# Altium footprint library SRU8043-330Y-Footprint-1.PcbLib: 1 footprints
Each footprint in its own frame and in the unit in brackets; x right, y up, seen from the top. Pads: shape width x height; smd on the part's side, far side on the other; paste and mask are expansions set on the pad; w line width, h text height; cw(c..) or ccw(c..) is an arc to the next point about the centre after c.
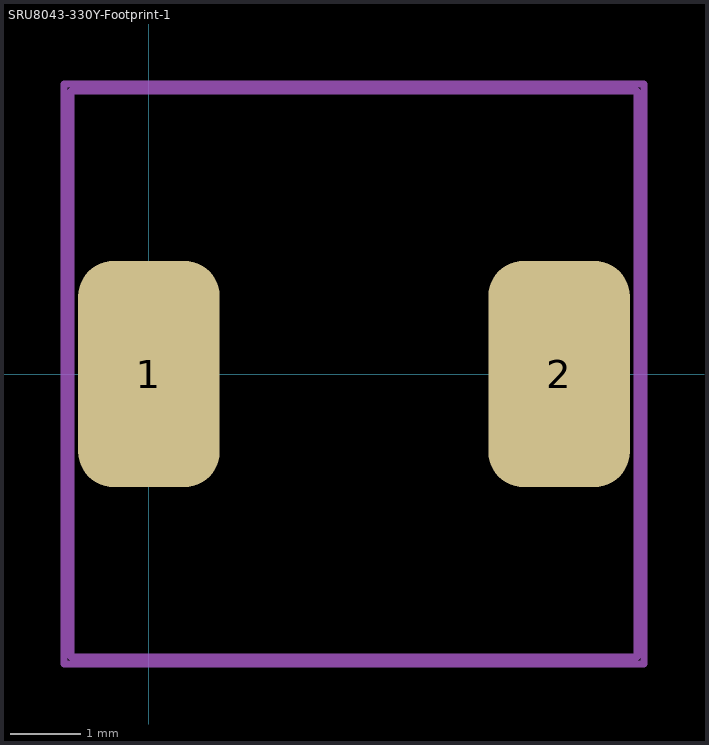
[diagram p0: the footprint, top view; thin cyan lines are the x and y axes]

## SRU8043-330Y-Footprint-1 [mm]
pads (2):
  rrect50% 2x3.2 smd: 1(0,0) 2(5.8,0)
Mechanical 2:
  lines w0.1: -1.1,-4 6.9,-4 6.9,4 -1.1,4 -1.1,-4
Mechanical 6:
  lines w0.1: -1.2,-4.1 -1.2,4.1 7,4.1 7,-4.1 -1.2,-4.1
3D body "sru8043.stp": height 4.2, standoff -0.1, extent -1.1,-4 6.9,4